# Altium footprint library Control_Board.PcbLib: 21 footprints (part 2 of 2)
Each footprint in its own frame and in the unit in brackets; x right, y up, seen from the top. Pads: shape width x height; smd on the part's side, far side on the other; paste and mask are expansions set on the pad; w line width, h text height; cw(c..) or ccw(c..) is an arc to the next point about the centre after c.
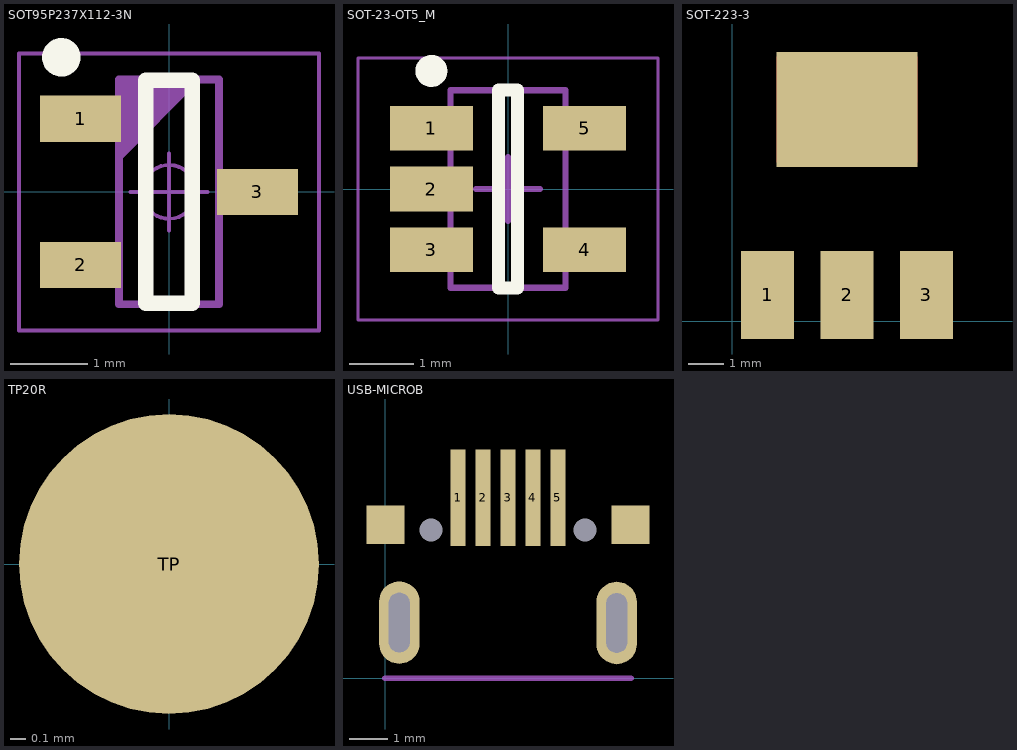
[diagram p1: the footprints below, top view; thin cyan lines are the x and y axes]

## SOT95P237X112-3N [mm]
pads (3):
  rect 1.05x0.6 smd: 1(-1.15,0.95) 2(-1.15,-0.95) 3(1.15,0)
Top Overlay:
  circle w0.25: c-1.4,1.75 r0.125
  lines w0.2: -0.3,-1.45 -0.3,1.45 0.3,1.45 0.3,-1.45 -0.3,-1.45
Mechanical 14:
  lines w0.1: -0.65,0.46 0.35,1.46 ; -0.65,0.56 0.25,1.46 ; -0.65,0.66 0.15,1.46 ; -0.65,0.76 0.05,1.46 ; -0.65,0.86 -0.05,1.46 ; -0.65,0.96 -0.15,1.46 ; -0.65,1.06 -0.25,1.46 ; -0.65,1.16 -0.35,1.46 ; -0.65,1.26 -0.45,1.46 ; -0.65,1.36 -0.55,1.46 ; -0.65,-1.46 -0.65,1.46 0.65,1.46 0.65,-1.46 -0.65,-1.46
Mechanical 15:
  circle w0.05: c0,0 r0.35
  lines w0.05: -0.5,0 0.5,0 ; 0,-0.5 0,0.5 ; -1.95,-1.8 -1.95,1.8 1.95,1.8 1.95,-1.8 -1.95,-1.8
3D body "SOT95P240X110-3N.stp": height 1.1, standoff 0, extent -1.25,-1.5 1.25,1.5

## SOT-23-OT5_M [mm]
pads (5):
  rect 1.3x0.7 smd: 1(-1.2,0.95) 2(-1.2,0) 3(-1.2,-0.95) 4(1.2,-0.95) 5(1.2,0.95)
Top Overlay:
  circle w0.25: c-1.2,1.85 r0.125
  lines w0.2: -0.15,-1.55 0.15,-1.55 0.15,1.55 -0.15,1.55 -0.15,-1.55
Mechanical 13:
  lines w0.1: -0.9,-1.55 -0.9,1.55 0.9,1.55 0.9,-1.55 -0.9,-1.55
Mechanical 15:
  lines w0.05: -2.35,-2.05 -2.35,2.05 2.35,2.05 2.35,-2.05 -2.35,-2.05
  lines w0.1: -0.5,0 0.5,0 ; 0,-0.5 0,0.5
3D body: height 1.45, standoff 0, extent -0.9,-1.55 0.9,1.55

## SOT-223-3 [mm]
pads (4):
  rect 1.5x2.5 smd: 1(1,0.75) 2(3.25,0.75) 3(5.5,0.75)
  rect 4x3.25 smd: ""(3.25,6)
Top Layer:
  rectangle: 1.25,4.5 5.25,7.5
3D body "SOT223-3L.stp": height 1.8, standoff 0, extent -0.096,-0.221 6.604,7.079

## TP20R [mm]
pads (1):
  rrect100% 2x2 smd paste-1: TP(0,0)

## USB-MICROB [mm]
pads (11):
  rect 0.4x2.5 smd: 1(1.9,4.7) 2(2.55,4.7) 3(3.2,4.7) 4(3.85,4.7) 5(4.5,4.7)
  rect 1x1 smd: ""(0.01,4) ""(6.39,4)
  rrect100% 1.05x2.15 hole 0.55 slot 1.55 at 90 deg: ""(0.37,1.45) ""(6.03,1.44)
  round 0 hole 0.6: ""(1.2,3.86) ""(5.2,3.86)
Mechanical 1:
  lines w0.152: 3.2,0 0,0 ; 6.1,0 0,0 ; 6.4,0 0,0